# Altium footprint library TSW-107-07-G-S.PcbLib: 1 footprints
Each footprint in its own frame and in the unit in brackets; x right, y up, seen from the top. Pads: shape width x height; smd on the part's side, far side on the other; paste and mask are expansions set on the pad; w line width, h text height; cw(c..) or ccw(c..) is an arc to the next point about the centre after c.
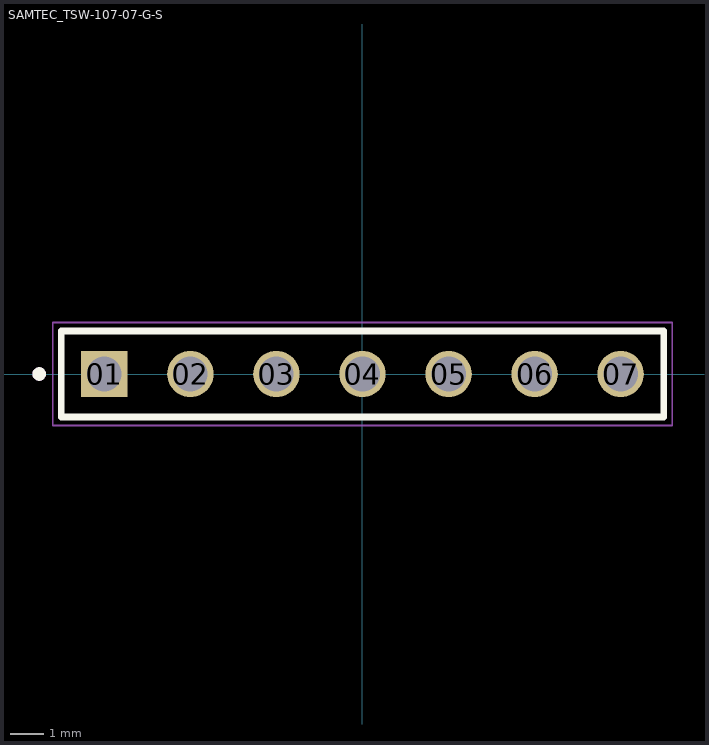
[diagram p0: the footprint, top view; thin cyan lines are the x and y axes]

## SAMTEC_TSW-107-07-G-S [mm]
pads (7):
  rect 1.37x1.37 hole 1.02: 01(-7.62,0)
  round 1.37 hole 1.02: 02(-5.08,0) 03(-2.54,0) 04(0,0) 05(2.54,0) 06(5.08,0) 07(7.62,0)
Top Overlay:
  circle w0.2: c-9.54,0 r0.1
  lines w0.2: -8.89,-1.27 8.89,-1.27 8.89,1.27 -8.89,1.27 -8.89,-1.27
Mechanical 13:
  circle w0.2: c-9.54,0 r0.1
  lines w0.1: -8.89,-1.27 -8.89,1.27 ; -8.89,-1.27 8.89,-1.27 ; -8.89,-1.27 -8.89,1.27 ; -8.89,1.27 8.89,1.27 ; -8.89,1.27 8.89,1.27 ; 8.89,-1.27 8.89,1.27 ; 8.89,-1.27 8.89,1.27
Mechanical 15:
  lines w0.05: -9.14,-1.52 9.14,-1.52 9.14,1.52 -9.14,1.52 -9.14,-1.52